# EAGLE library part ODIN-W262 (library ublox)
ODIN-W260: Host-based multiradio module with Wi-Fi and Bluetooth, internal antenna u-blox.com
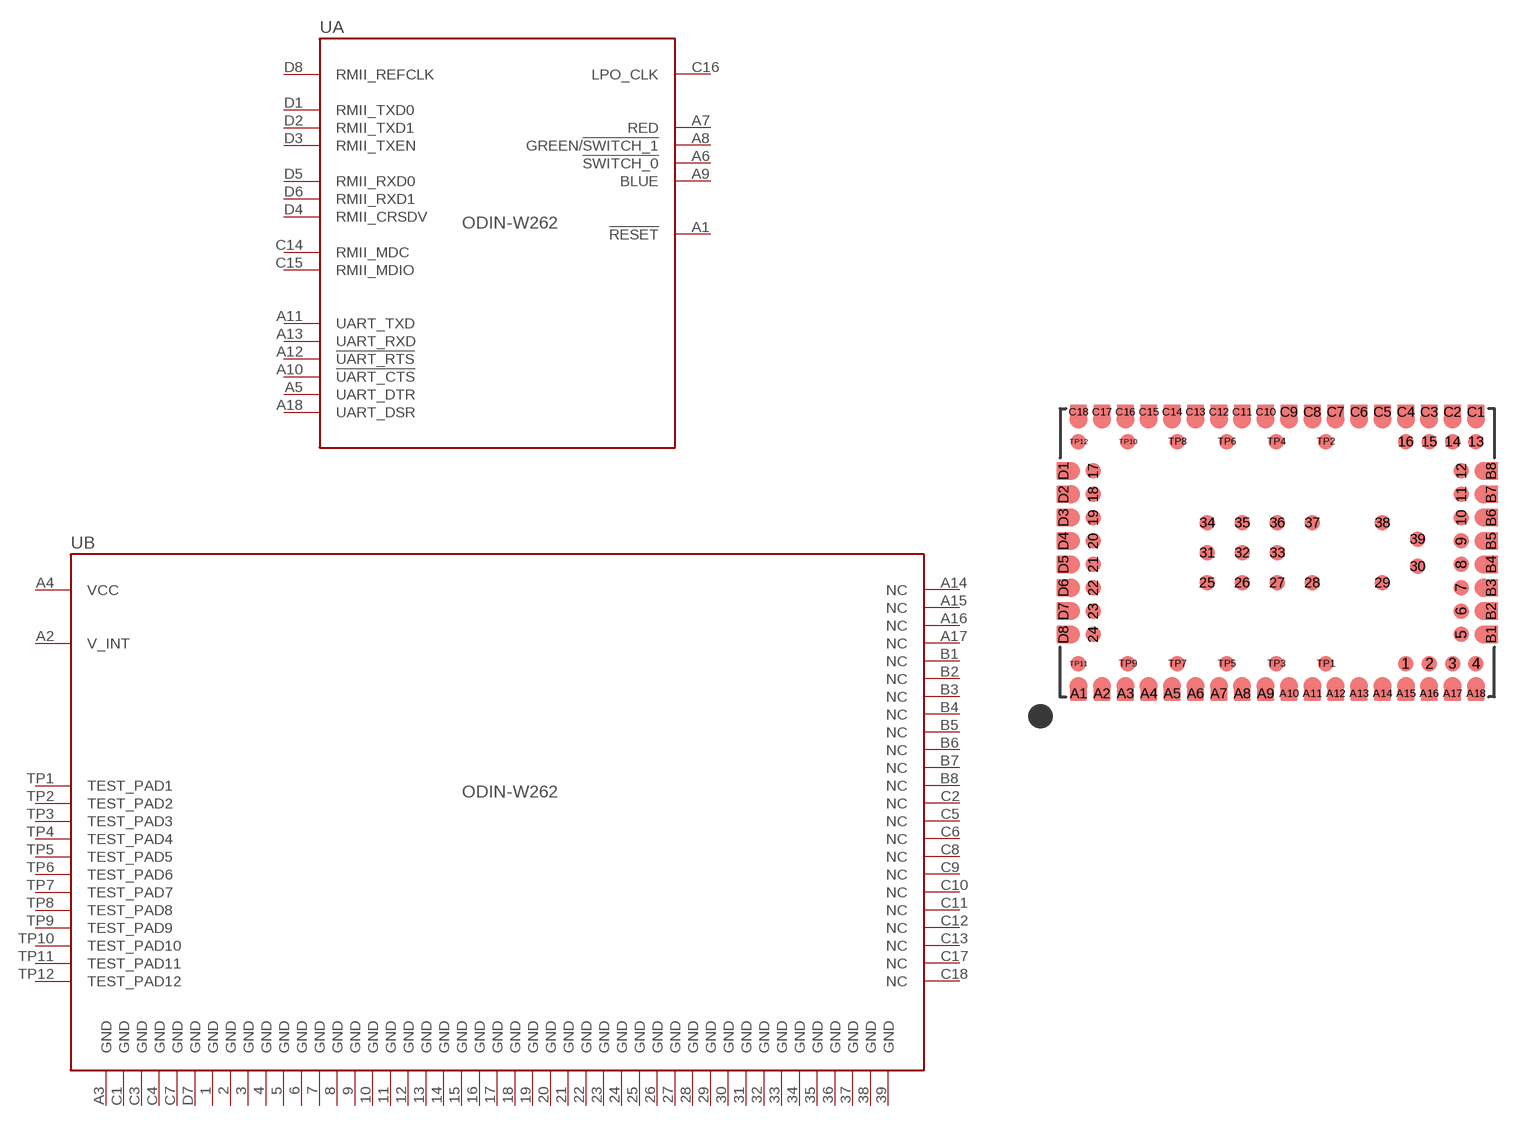
[diagram p3: symbol with the pads of ODIN-88; footprint ODIN-88]

Designator prefix U; gates A=ODIN-W260_GPIO B=ODIN-W260_PWR

## ODIN-W262  [ODIN-88]
1  B:GND  pwr
2  B:GND  pwr
3  B:GND  pwr
4  B:GND  pwr
5  B:GND  pwr
6  B:GND  pwr
7  B:GND  pwr
8  B:GND  pwr
9  B:GND  pwr
10  B:GND  pwr
11  B:GND  pwr
12  B:GND  pwr
13  B:GND  pwr
14  B:GND  pwr
15  B:GND  pwr
16  B:GND  pwr
17  B:GND  pwr
18  B:GND  pwr
19  B:GND  pwr
20  B:GND  pwr
21  B:GND  pwr
22  B:GND  pwr
23  B:GND  pwr
24  B:GND  pwr
25  B:GND  pwr
26  B:GND  pwr
27  B:GND  pwr
28  B:GND  pwr
29  B:GND  pwr
30  B:GND  pwr
31  B:GND  pwr
32  B:GND  pwr
33  B:GND  pwr
34  B:GND  pwr
35  B:GND  pwr
36  B:GND  pwr
37  B:GND  pwr
38  B:GND  pwr
39  B:GND  pwr
A1  A:!RESET  in
A2  B:V_INT  pwr
A3  B:GND  pwr
A4  B:VCC  pwr
A5  A:UART_DTR  out
A6  A:!SWITCH_0  in
A7  A:RED  out
A8  A:GREEN/!SWITCH_1
A9  A:BLUE  out
A10  A:!UART_CTS  in
A11  A:UART_TXD  out
A12  A:!UART_RTS  out
A13  A:UART_RXD  in
A14  B:NC  nc
A15  B:NC  nc
A16  B:NC  nc
A17  B:NC  nc
A18  A:UART_DSR  in
B1  B:NC  nc
B2  B:NC  nc
B3  B:NC  nc
B4  B:NC  nc
B5  B:NC  nc
B6  B:NC  nc
B7  B:NC  nc
B8  B:NC  nc
C1  B:GND  pwr
C2  B:NC  nc
C3  B:GND  pwr
C4  B:GND  pwr
C5  B:NC  nc
C6  B:NC  nc
C7  B:GND  pwr
C8  B:NC  nc
C9  B:NC  nc
C10  B:NC  nc
C11  B:NC  nc
C12  B:NC  nc
C13  B:NC  nc
C14  A:RMII_MDC  out
C15  A:RMII_MDIO
C16  A:LPO_CLK  in
C17  B:NC  nc
C18  B:NC  nc
D1  A:RMII_TXD0  out
D2  A:RMII_TXD1  out
D3  A:RMII_TXEN  out
D4  A:RMII_CRSDV  in
D5  A:RMII_RXD0  in
D6  A:RMII_RXD1  in
D7  B:GND  pwr
D8  A:RMII_REFCLK  in
TP1  B:TEST_PAD1  nc
TP2  B:TEST_PAD2  nc
TP3  B:TEST_PAD3  nc
TP4  B:TEST_PAD4  nc
TP5  B:TEST_PAD5  nc
TP6  B:TEST_PAD6  nc
TP7  B:TEST_PAD7  nc
TP8  B:TEST_PAD8  nc
TP9  B:TEST_PAD9  nc
TP10  B:TEST_PAD10  nc
TP11  B:TEST_PAD11  nc
TP12  B:TEST_PAD12  nc

## Footprint ODIN-88 (pad centres in mm)
ODIN-W26x: 88 pin u-blox.com
smd 0.8 x 0.8: 1 6.6,-5.7; 2 7.8,-5.7; 3 9,-5.7; 4 10.2,-5.7; 5 9.45,-4.2; 6 9.45,-3; 7 9.45,-1.8; 8 9.45,-0.6; 9 9.45,0.6; 10 9.45,1.8; 11 9.45,3; 12 9.45,4.2; 13 10.2,5.7; 14 9,5.7; 15 7.8,5.7; 16 6.6,5.7; 17 -9.45,4.2; 18 -9.45,3; 19 -9.45,1.8; 20 -9.45,0.6; 21 -9.45,-0.6; 22 -9.45,-1.8; 23 -9.45,-3; 24 -9.45,-4.2; 25 -3.6,-1.54; 26 -1.8,-1.54; 27 0,-1.54; 28 1.8,-1.54; 29 5.4,-1.54; 30 7.2,-0.7; 31 -3.6,0; 32 -1.8,0; 33 0,0; 34 -3.6,1.54; 35 -1.8,1.54; 36 0,1.54; 37 1.8,1.54; 38 5.4,1.54; 39 7.2,0.7; TP1 2.49,-5.7; TP2 2.49,5.7; TP3 -0.05,-5.7; TP4 -0.05,5.7; TP5 -2.59,-5.7; TP6 -2.59,5.7; TP7 -5.13,-5.7; TP8 -5.13,5.7; TP9 -7.67,-5.7; TP10 -7.67,5.7; TP11 -10.21,-5.7; TP12 -10.21,5.7
smd 0.9 x 0.75: A1 -10.2,-7.225; A2 -9,-7.225; A3 -7.8,-7.225; A4 -6.6,-7.225; A5 -5.4,-7.225; A6 -4.2,-7.225; A7 -3,-7.225; A8 -1.8,-7.225; A9 -0.6,-7.225; A10 0.6,-7.225; A11 1.8,-7.225; A12 3,-7.225; A13 4.2,-7.225; A14 5.4,-7.225; A15 6.6,-7.225; A16 7.8,-7.225; A17 9,-7.225; A18 10.2,-7.225; C1 10.2,7.225; C2 9,7.225; C3 7.8,7.225; C4 6.6,7.225; C5 5.4,7.225; C6 4.2,7.225; C7 3,7.225; C8 1.8,7.225; C9 0.6,7.225; C10 -0.6,7.225; C11 -1.8,7.225; C12 -3,7.225; C13 -4.2,7.225; C14 -5.4,7.225; C15 -6.6,7.225; C16 -7.8,7.225; C17 -9,7.225; C18 -10.2,7.225
smd 0.75 x 0.9: B1 10.975,-4.2; B2 10.975,-3; B3 10.975,-1.8; B4 10.975,-0.6; B5 10.975,0.6; B6 10.975,1.8; B7 10.975,3; B8 10.975,4.2; D1 -10.975,4.2; D2 -10.975,3; D3 -10.975,1.8; D4 -10.975,0.6; D5 -10.975,-0.6; D6 -10.975,-1.8; D7 -10.975,-3; D8 -10.975,-4.2